# Altium schematic symbol library VJ0402D100MXCAP.SchLib: 1 symbol
Pins are listed as number, name and electrical type; pins without a type are passive.

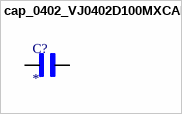
[diagram p0: symbol cap_0402_VJ0402D100MXCAP]

## cap_0402_VJ0402D100MXCAP
designator C?
cap 0402; MF: Vishay Vitramon; MP: VJ0402D100MXCAP; SnapEDA_Link: https://www.snapeda.com/parts/VJ0402D100MXCAP/Vishay/view-part/?ref=snap; Package: 1005 Vishay Vitramon; Value: *; Check_prices: https://www.snapeda.com/parts/VJ0402D100MXCAP/Vishay/view-part/?ref=eda
footprint CAPC1005X61N
pins: 1, 2